# EAGLE library part FDS8949 (library robot-hand)
Dual N-Channel PowerTrench® MOSFET https://www.fairchildsemi.com/datasheets/FD/FDS8949.pdf
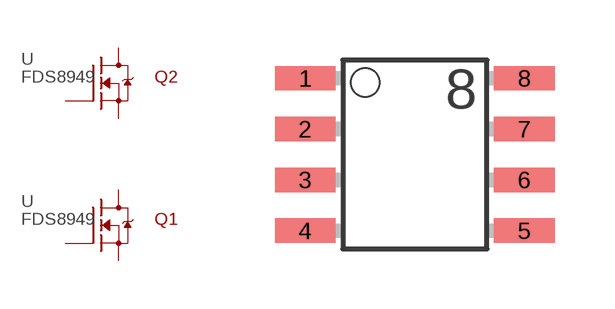
[diagram p3: symbol with the pads of SOIC8; footprint SOIC8]

Designator prefix -

## FDS8949  [SOIC8]
1  S1  pas
2  G1  pas
3  S2  pas
4  G2  pas
5  D2  pas
6  D2  pas
7  D1  pas
8  D1  pas

## Footprint SOIC8 (pad centres in mm)
Small Outline IC
smd 1.524 x 0.61: 1 -2.743,1.905; 2 -2.743,0.635; 3 -2.743,-0.635; 4 -2.743,-1.905; 5 2.743,-1.905; 6 2.743,-0.635; 7 2.743,0.635; 8 2.743,1.905